# Altium footprint library CONN_PWR.PcbLib: 33 footprints (part 2 of 3)
Each footprint in its own frame and in the unit in brackets; x right, y up, seen from the top. Pads: shape width x height; smd on the part's side, far side on the other; paste and mask are expansions set on the pad; w line width, h text height; cw(c..) or ccw(c..) is an arc to the next point about the centre after c.
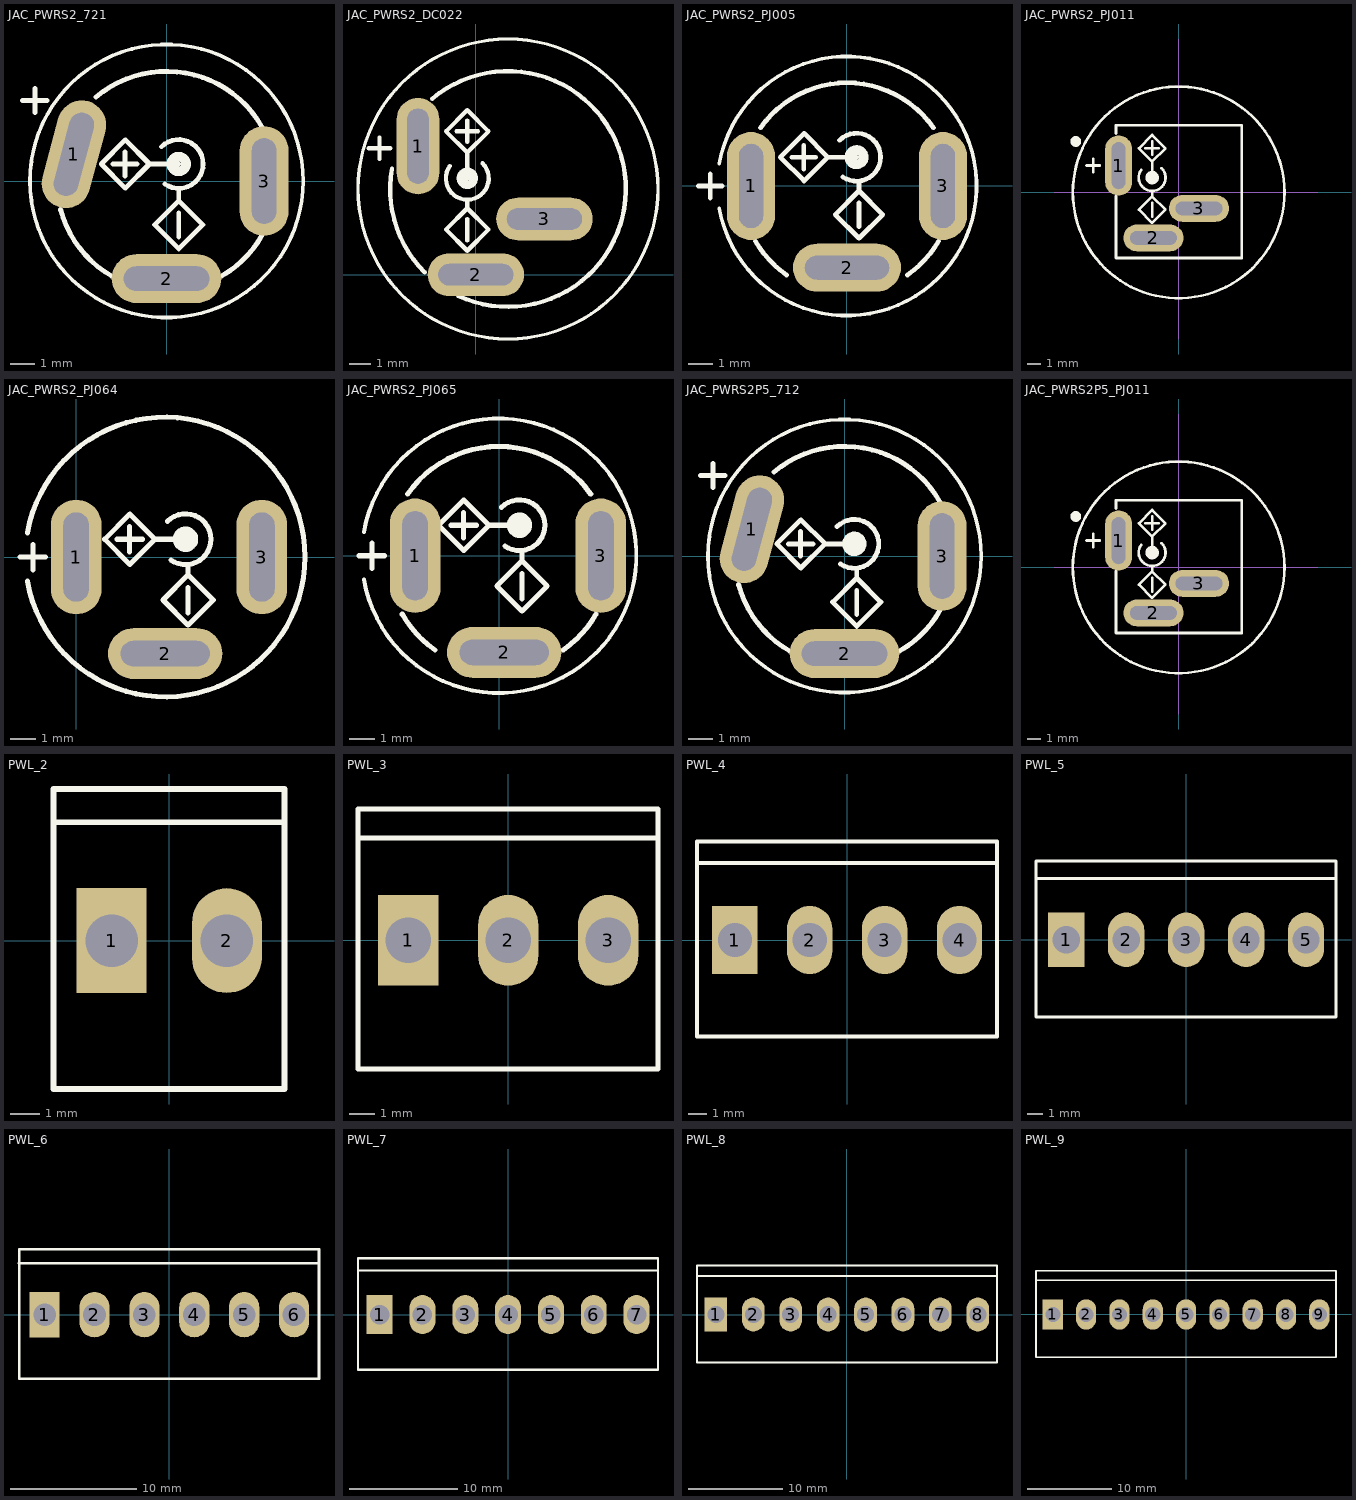
[diagram p1: the footprints below, top view; thin cyan lines are the x and y axes]

## JAC_PWRS2_721 [mm] "DC POWER JACK, 2.1mm Dia, SWITCHCRAFT 721A"
height 19
pads (3):
  oval 2x4.5 hole 1 slot 3.5 at 75 deg rot 165: 1(-3.8,1.1)
  oval 4.5x2 hole 1 slot 3.5 at 0 deg: 2(0,-4)
  oval 2x4.5 hole 1 slot 3.5 at 90 deg: 3(4,0)
Top Overlay:
  circle w0.4: c0.5,0.7 r0.3
  circle w0.15: c0,0 r5.6
  lines w0.2: -5.9,3.3 -4.9,3.3 ; -5.4,2.8 -5.4,3.8 ; -4.347,-1.165 ccw(c0,0) -2.25,-3.897 ; -2.893,3.447 cw(c0,0) 3.897,2.25 ; -2.2,0.7 -1.2,0.7 ; -1.7,0.2 -1.7,1.2 ; -0.207,1.407 cw(c0.5,0.7) -0.074,-0.119 ; 0.5,-2.3 0.5,-1.3 ; 0.5,-0.4 0.5,-0.8 ; 0.5,0.7 -0.7,0.7 ; 2.25,-3.897 ccw(c0,0) 3.897,-2.25 ; -0.7,0.7 -1.69,-0.29 -2.68,0.7 -1.69,1.69 -0.7,0.7 ; 0.5,-0.8 1.49,-1.79 0.5,-2.78 -0.49,-1.79 0.5,-0.8
3D body "721A_edited.STEP": height 16.06, standoff -4.77, extent -5.512,-5.512 5.512,5.512

## JAC_PWRS2_DC022 [mm] "DC POWER JACK, 2.1mm Dia, DC-022"
height 19
pads (3):
  oval 2x4.5 hole 1 slot 3.5 at 90 deg: 1(-2.7,6)
  oval 4.5x2 hole 1 slot 3.5 at 0 deg: 2(0,0) 3(3.2,2.6)
Top Overlay:
  circle w0.4: c-0.4,4.5 r0.3
  circle w0.15: c1.5,4 r7
  lines w0.2: -5,5.9 -4,5.9 ; -4.5,5.4 -4.5,6.4 ; -3.916,4.955 ccw(c1.5,4) -2.389,0.111 ; -2.035,8.213 cw(c1.5,4) -0.824,-0.985 ; -1.219,5.074 ccw(c-0.4,4.5) 0.307,5.207 ; -0.9,6.7 0.1,6.7 ; -0.4,1.6 -0.4,2.6 ; -0.4,3.5 -0.4,3.1 ; -0.4,4.5 -0.4,5.7 ; -0.4,6.2 -0.4,7.2 ; -0.4,3.1 0.59,2.11 -0.4,1.12 -1.39,2.11 -0.4,3.1 ; -0.4,5.7 -1.39,6.69 -0.4,7.68 0.59,6.69 -0.4,5.7
3D body "User Library-KLS1-DC-022B.step": height 13.8, standoff -4.5, extent -6,-4.66 9,12.66

## JAC_PWRS2_PJ005 [mm] "DC POWER JACK, 2.1mm Dia, PJ-005A"
height 19
pads (3):
  oval 2x4.5 hole 1 slot 3.5 at 90 deg: 1(-4,0) 3(4,0)
  oval 4.5x2 hole 1 slot 3.5 at 0 deg: 2(0,-3.4)
Top Overlay:
  circle w0.4: c0.4,1.2 r0.3
  lines w0.15: -5.318,-0.938 ccw(c0,0) -5.318,0.938
  lines w0.2: -6.2,0 -5.2,0 ; -5.7,-0.5 -5.7,0.5 ; -3.811,-2.3 ccw(c0,-0.1) -2.524,-3.704 ; -3.604,2.424 cw(c0,-0.1) 3.604,2.424 ; -2.3,1.2 -1.3,1.2 ; -1.8,0.7 -1.8,1.7 ; -0.307,1.907 cw(c0.4,1.2) -0.174,0.381 ; 0.4,1.2 -0.8,1.2 ; 0.5,-1.7 0.5,-0.7 ; 0.5,0.2 0.5,-0.2 ; 2.524,-3.704 ccw(c0,-0.1) 3.811,-2.3 ; -0.8,1.2 -1.79,2.19 -2.78,1.2 -1.79,0.21 -0.8,1.2 ; 0.5,-0.2 -0.49,-1.19 0.5,-2.18 1.49,-1.19 0.5,-0.2
3D body "CUI_PJ-005A.step": height 16.15, standoff -4.75, extent -5.275,-5.773 5.275,5.774

## JAC_PWRS2_PJ011 [mm] "DC POWER JACK, 2.0mm Dia, PJ-011A"
height 13
pads (3):
  oval 2x4.5 hole 1 slot 3.5 at 90 deg: 1(-4.5,2)
  oval 4.5x2 hole 1 slot 3.5 at 0 deg: 2(-1.9,-3.4) 3(1.5,-1.2)
Top Overlay:
  circle w0.4: c-7.7,3.8 r0.2
  circle w0.2: c-0.02,0 r7.9
  circle w0.4: c-2,1.1 r0.3
  lines w0.2: -6.9,2 -5.9,2 ; -6.4,1.5 -6.4,2.5 ; -4.7,-0.3 -4.7,-4.9 4.7,-4.9 4.7,5 -4.7,5 -4.7,4.4 ; -2.819,1.674 ccw(c-2,1.1) -1.293,1.807 ; -2.5,3.3 -1.5,3.3 ; -2,-1.8 -2,-0.8 ; -2,0.1 -2,-0.3 ; -2,1.1 -2,2.3 ; -2,2.8 -2,3.8 ; -2,-0.3 -1.01,-1.29 -2,-2.28 -2.99,-1.29 -2,-0.3 ; -2,2.3 -2.99,3.29 -2,4.28 -1.01,3.29 -2,2.3
Mechanical 1:
  lines w0.001: -4.92,0.25 -4.92,3.75 -4.12,3.75 -4.12,0.25 -4.92,0.25 ; -3.4,-3.7 -0.4,-3.7 -0.4,-3.1 -3.4,-3.1 -3.4,-3.7 ; 0,-1.55 3,-1.55 3,-0.95 0,-0.95 0,-1.55
Mechanical 4:
  circle w0.127: c-0.02,0 r7.9
  circle w0.127: c-0.02,0 r7.9
  lines w0.05: -9.32,0 10.38,0 -9.32,0 ; -0.02,-10.95 -0.02,11.45 -0.02,-10.95
3D body "CUI_PJ-011A.step": height 13.3, standoff -4.6, extent -8.66,-7.9 8.66,7.9

## JAC_PWRS2_PJ064 [mm] "DC POWER JACK, 2.0mm Dia, PJ-064A"
height 19
pads (3):
  oval 2x4.5 hole 1 slot 3.5 at 90 deg: 1(0,0) 3(7.3,0)
  oval 4.5x2 hole 1 slot 3.5 at 0 deg: 2(3.5,-3.8)
Top Overlay:
  circle w0.4: c4.3,0.7 r0.3
  lines w0.2: -2.2,0 -1.2,0 ; -1.916,-0.955 ccw(c3.5,0) -1.916,0.955 ; -1.7,-0.5 -1.7,0.5 ; 1.6,0.7 2.6,0.7 ; 2.1,0.2 2.1,1.2 ; 3.593,1.407 cw(c4.3,0.7) 3.726,-0.119 ; 4.3,0.7 3.1,0.7 ; 4.4,-2.2 4.4,-1.2 ; 4.4,-0.3 4.4,-0.7 ; 3.1,0.7 2.11,-0.29 1.12,0.7 2.11,1.69 3.1,0.7 ; 4.4,-0.7 5.39,-1.69 4.4,-2.68 3.41,-1.69 4.4,-0.7
3D body "CUI_PJ-064A.step": height 18, standoff -4.1, extent -2,-5.55 9,5.55

## JAC_PWRS2_PJ065 [mm] "DC POWER JACK, 2.0mm Dia, PJ-065A"
height 19
pads (3):
  oval 2x4.5 hole 1 slot 3.5 at 90 deg: 1(-3.3,0) 3(4,0)
  oval 4.5x2 hole 1 slot 3.5 at 0 deg: 2(0.2,-3.8)
Top Overlay:
  circle w0.4: c0.8,1.2 r0.3
  lines w0.15: -5.318,-0.938 ccw(c0,0) -5.318,0.938
  lines w0.2: -5.5,0 -4.5,0 ; -5,-0.5 -5,0.5 ; -3.811,-2.3 ccw(c0,-0.1) -2.524,-3.704 ; -3.604,2.424 cw(c0,-0.1) 3.604,2.424 ; -1.9,1.2 -0.9,1.2 ; -1.4,0.7 -1.4,1.7 ; 0.093,1.907 cw(c0.8,1.2) 0.226,0.381 ; 0.8,1.2 -0.4,1.2 ; 0.9,-1.7 0.9,-0.7 ; 0.9,0.2 0.9,-0.2 ; 2.524,-3.704 ccw(c0,-0.1) 3.811,-2.3 ; -0.4,1.2 -1.39,0.21 -2.38,1.2 -1.39,2.19 -0.4,1.2 ; 0.9,-0.2 1.89,-1.19 0.9,-2.18 -0.09,-1.19 0.9,-0.2
3D body "CUI_PJ-065A.step": height 21.3, standoff -1.9, extent -5.3,-5.55 5.7,5.55

## JAC_PWRS2P5_712 [mm] "DC POWER JACK, 2.5mm Dia, SWITCHCRAFT 712A"
height 19
pads (3):
  oval 2x4.5 hole 1 slot 3.5 at 75 deg rot 165: 1(-3.8,1.1)
  oval 4.5x2 hole 1 slot 3.5 at 0 deg: 2(0,-4)
  oval 2x4.5 hole 1 slot 3.5 at 90 deg: 3(4,0)
Top Overlay:
  circle w0.15: c0,0 r5.6
  circle w0.4: c0.4,0.5 r0.3
  lines w0.2: -5.9,3.3 -4.9,3.3 ; -5.4,2.8 -5.4,3.8 ; -4.347,-1.165 ccw(c0,0) -2.25,-3.897 ; -2.893,3.447 cw(c0,0) 3.897,2.25 ; -2.3,0.5 -1.3,0.5 ; -1.8,0 -1.8,1 ; -0.307,1.207 cw(c0.4,0.5) -0.174,-0.319 ; 0.4,0.5 -0.8,0.5 ; 0.5,-2.4 0.5,-1.4 ; 0.5,-0.5 0.5,-0.9 ; 2.25,-3.897 ccw(c0,0) 3.897,-2.25 ; -0.8,0.5 -1.79,1.49 -2.78,0.5 -1.79,-0.49 -0.8,0.5 ; 0.5,-0.9 -0.49,-1.89 0.5,-2.88 1.49,-1.89 0.5,-0.9
3D body "712A_edited.STEP": height 16.06, standoff -4.77, extent -5.512,-5.517 5.512,5.512

## JAC_PWRS2P5_PJ011 [mm] "DC POWER JACK, 2.1mm Dia, PJ-011B"
height 13
pads (3):
  oval 2x4.5 hole 1 slot 3.5 at 90 deg: 1(-4.5,2)
  oval 4.5x2 hole 1 slot 3.5 at 0 deg: 2(-1.9,-3.4) 3(1.5,-1.2)
Top Overlay:
  circle w0.4: c-2,1.1 r0.3
  circle w0.2: c-0.02,0 r7.9
  circle w0.4: c-7.7,3.8 r0.2
  lines w0.2: -6.9,2 -5.9,2 ; -6.4,1.5 -6.4,2.5 ; -4.7,-0.3 -4.7,-4.9 4.7,-4.9 4.7,5 -4.7,5 -4.7,4.4 ; -2.819,1.674 ccw(c-2,1.1) -1.293,1.807 ; -2.5,3.3 -1.5,3.3 ; -2,-1.8 -2,-0.8 ; -2,0.1 -2,-0.3 ; -2,1.1 -2,2.3 ; -2,2.8 -2,3.8 ; -2,-0.3 -2.99,-1.29 -2,-2.28 -1.01,-1.29 -2,-0.3 ; -2,2.3 -1.01,3.29 -2,4.28 -2.99,3.29 -2,2.3
Mechanical 1:
  lines w0.001: -4.92,0.25 -4.12,0.25 -4.12,3.75 -4.92,3.75 -4.92,0.25 ; -3.4,-3.7 -3.4,-3.1 -0.4,-3.1 -0.4,-3.7 -3.4,-3.7 ; 0,-1.55 0,-0.95 3,-0.95 3,-1.55 0,-1.55
Mechanical 4:
  circle w0.127: c-0.02,0 r7.9
  circle w0.127: c-0.02,0 r7.9
  lines w0.05: -9.32,0 10.38,0 -9.32,0 ; -0.02,-10.95 -0.02,11.45 -0.02,-10.95
3D body "CUI_PJ-011B.step": height 13.3, standoff -4.6, extent -8.66,-7.9 8.66,7.9

## PWL_2 [mm] "Connector; Header; 2 Position"
height 0.001
pads (2):
  rect 2.4x3.6 hole 1.8: 1(-1.98,0)
  oval 2.4x3.6 hole 1.8: 2(1.98,0)
Top Overlay:
  lines w0.2: -3.98,4.064 3.96,4.064 ; -3.98,-5.1 -3.98,5.207 3.96,5.207 3.96,-5.1 -3.98,-5.1
3D body "PWL-2.stp": height 13.5, standoff -4, extent -3.96,-5 3.96,5

## PWL_3 [mm] "Connector; Header; 3 Position"
height 0.001
pads (3):
  rect 2.4x3.6 hole 1.8: 1(-3.96,0)
  oval 2.4x3.6 hole 1.8: 2(0,0) 3(3.96,0)
Top Overlay:
  lines w0.2: -5.96,4.064 5.94,4.064 ; -5.96,-5.1 5.94,-5.1 5.94,5.207 -5.96,5.207 -5.96,-5.1
3D body "PWL-3.stp": height 13.5, standoff -4, extent -5.94,-5 5.94,5

## PWL_4 [mm] "Connector; Header; 4 Position"
height 0.001
pads (4):
  rect 2.4x3.6 hole 1.8: 1(-5.94,0)
  oval 2.4x3.6 hole 1.8: 2(-1.98,0) 3(1.98,0) 4(5.94,0)
Top Overlay:
  lines w0.2: -7.94,4.064 7.92,4.064 ; -7.94,-5.1 -7.94,5.207 7.92,5.207 7.92,-5.1 -7.94,-5.1
3D body "PWL-4.stp": height 13.5, standoff -4, extent -7.92,-5 7.92,5

## PWL_5 [mm] "Connector; Header; 5 Position"
height 0.001
pads (5):
  rect 2.4x3.6 hole 1.8: 1(-7.92,0)
  oval 2.4x3.6 hole 1.8: 2(-3.96,0) 3(0,0) 4(3.96,0) 5(7.92,0)
Top Overlay:
  lines w0.2: -9.92,4.064 9.9,4.064 ; -9.92,-5.1 -9.92,5.207 9.9,5.207 9.9,-5.1 -9.92,-5.1
3D body "PWL-5.stp": height 13.5, standoff -4, extent -9.9,-5 9.9,5

## PWL_6 [mm] "Connector; Header; 6 Position"
height 0.001
pads (6):
  rect 2.4x3.6 hole 1.8: 1(-9.9,0)
  oval 2.4x3.6 hole 1.8: 2(-5.94,0) 3(-1.98,0) 4(1.98,0) 5(5.94,0) 6(9.9,0)
Top Overlay:
  lines w0.2: -11.932,4.064 11.88,4.064 ; -11.9,-5.1 -11.9,5.207 11.88,5.207 11.88,-5.1 -11.9,-5.1
3D body "PWL-6.stp": height 13.5, standoff -4, extent -11.88,-5 11.88,5

## PWL_7 [mm] "Connector; Header; 7 Position"
height 0.001
pads (7):
  rect 2.4x3.6 hole 1.8: 1(-11.88,0)
  oval 2.4x3.6 hole 1.8: 2(-7.92,0) 3(-3.96,0) 4(0,0) 5(3.96,0) 6(7.92,0) 7(11.88,0)
Top Overlay:
  lines w0.2: -13.88,4.064 13.86,4.064 ; -13.88,-5.1 -13.88,5.207 13.86,5.207 13.86,-5.1 -13.88,-5.1
3D body "PWL-7.stp": height 13.5, standoff -4, extent -13.86,-5 13.86,5

## PWL_8 [mm] "Connector; Header; 8 Position"
height 0.001
pads (8):
  rect 2.4x3.6 hole 1.8: 1(-13.86,0)
  oval 2.4x3.6 hole 1.8: 2(-9.9,0) 3(-5.94,0) 4(-1.98,0) 5(1.98,0) 6(5.94,0) 7(9.9,0) 8(13.86,0)
Top Overlay:
  lines w0.2: -15.86,4.064 15.89,4.064 ; -15.86,-5.1 -15.86,5.207 15.89,5.207 15.89,-5.1 -15.86,-5.1
3D body "PWL-8.stp": height 13.5, standoff -4, extent -15.822,-4.92 15.858,5.08

## PWL_9 [mm] "Connector; Header; 9 Position"
height 0.001
pads (9):
  rect 2.4x3.6 hole 1.8: 1(-15.84,0)
  oval 2.4x3.6 hole 1.8: 2(-11.88,0) 3(-7.92,0) 4(-3.96,0) 5(0,0) 6(3.96,0) 7(7.92,0) 8(11.88,0) 9(15.84,0)
Top Overlay:
  lines w0.2: -17.84,4.064 17.82,4.064 ; -17.84,-5.1 -17.84,5.207 17.82,5.207 17.82,-5.1 -17.84,-5.1
3D body "PWL-9.stp": height 13.5, standoff -4, extent -17.82,-5 17.82,5